# Altium schematic symbol library Schlib1.SchLib: 23 symbols
Pins are listed as number, name and electrical type; pins without a type are passive.

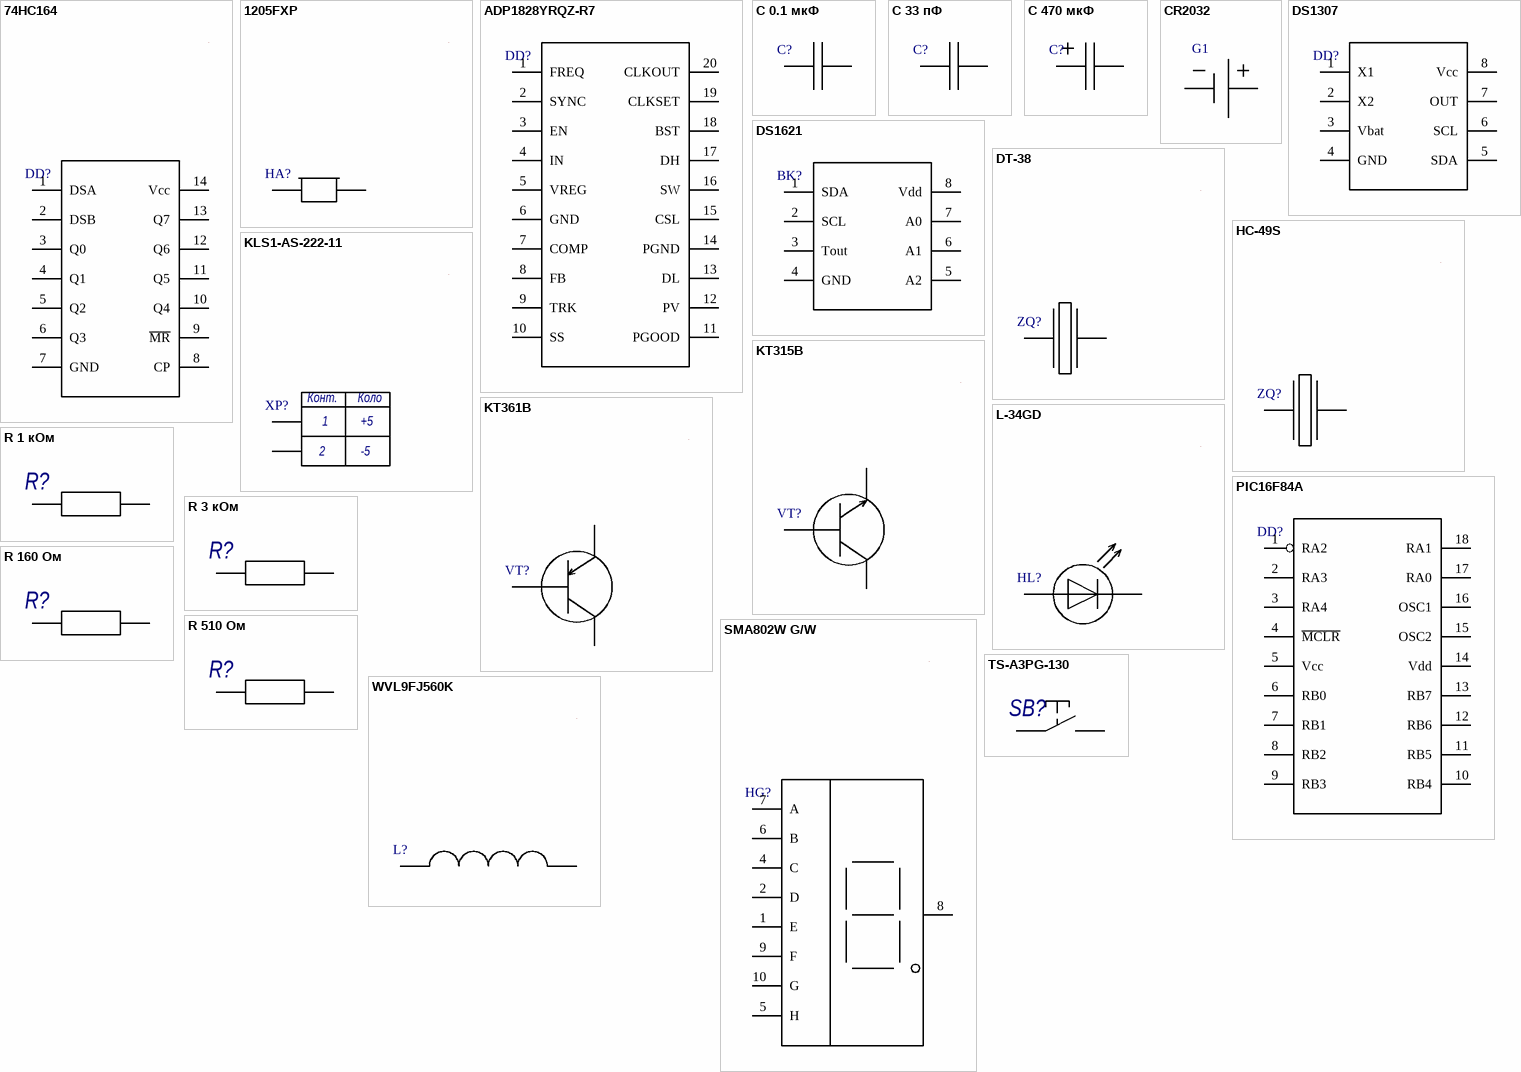
[diagram p0: symbols 74HC164 to WVL9FJ560K]

## 74HC164
designator DD?, comment 74HC164 Philips Semiconductors  (value not drawn)
https://www.digikey.com/en/products/detail/texas-instruments/CD74HC164M96/555785; Name: 74HC164; Manufacturer: Philips Semiconductors
footprint CD74HC164
pins: 1 DSA, 2 DSB, 3 Q0, 4 Q1, 5 Q2, 6 Q3, 7 GND, 8 CP, 9 ~{MR}, 10 Q4, 11 Q5, 12 Q6, 13 Q7, 14 Vcc

## 1205FXP
designator HA?, comment 1205FXP MULTICOMP  (value not drawn)
Name: 1205FXP; Manufacturer: MULTICOMP
footprint 1205FXP
pins: 1, 2

## ADP1828YRQZ-R7
designator DD?, comment ADP1828YRQZ-R7 Analog Devices  (value not drawn)
Микрушка; Name: ADP1828YRQZ-R7; Manufacturer: Analog Devices
pins: 1 FREQ, 2 SYNC, 3 EN, 4 IN, 5 VREG, 6 GND, 7 COMP, 8 FB, 9 TRK, 10 SS, 11 PGOOD, 12 PV, 13 DL, 14 PGND, 15 CSL, 16 SW, 17 DH, 18 BST, 19 CLKSET, 20 CLKOUT

## C 0.1 мкФ
designator C?, comment 0805 63 В 0.1 мкФ 10% *  (value not drawn)
https://product.tdk.com/en/system/files?file=dam/doc/product/capacitor/ceramic/mlcc/catalog/mlcc_automotive_soft_en.pdf; Voltage: 63 В; Value: 0.1 мкФ; Package: 0805; Tolerance: 10%; Temp_Coef: *; Manufacturer: *
footprint 0805_C
pins: 1, 2

## C 33 пФ
designator C?, comment С-0805 50 В 33 пФ 5% *  (value not drawn)
https://media.digikey.com/pdf/Data%20Sheets/Knowles%20Syfer/MLCC_High_Reliability.pdf; Voltage: 50 В; Value: 33 пФ; Package: С-0805; Tolerance: 5%; Temp_Coef: *; Manufacturer: *
footprint 0805_C
pins: 1, 2

## C 470 мкФ
designator C?, comment K50-35 16 В 470 мкФ 10% *  (value not drawn)
https://www.nichicon.co.jp/english/products/pdfs/e-ucm.pdf; Voltage: 16 В; Value: 470 мкФ; Package: K50-35; Tolerance: 10%; Temp_Coef: *; Manufacturer: *
footprint ELECTROLYTHIC
pins: 1, 2

## CR2032
designator G1, comment CR2032 MPD Devices  (value not drawn)
https://www.memoryprotectiondevices.com/datasheets/BU2032SM-FH-GTR-datasheet.pdf; Name: CR2032; Manufacturer: MPD Devices
footprint CR2032 (Footprint not found)
pins: 1, 2

## DS1307
designator DD?, comment DS1307 Dallas Semiconductor  (value not drawn)
https://www.digikey.com/en/products/detail/maxim-integrated/DS1307Z/956882; Name: DS1307; Manufacturer: Dallas Semiconductor
footprint DS1307
pins: 1 X1, 2 X2, 3 Vbat, 4 GND, 5 SDA, 6 SCL, 7 OUT, 8 Vcc

## DS1621
designator BK?, comment DS1621 Maxim integrated  (value not drawn)
https://www.digikey.com/en/products/detail/maxim-integrated/DS1621V/1197054; Name: DS1621; Manufacturer: Maxim integrated
footprint DS1621
pins: 1 SDA, 2 SCL, 3 Tout, 4 GND, 5 A2, 6 A1, 7 A0, 8 Vdd

## DT-38
designator ZQ?, comment DT-38 SPC TECHNOLOGY  (value not drawn)
https://www.digikey.com/en/products/detail/cts-frequency-controls/520L15DT38M4000/4973212; Name: DT-38; Manufacturer: SPC TECHNOLOGY
footprint DT-38
pins: 1, 2

## HC-49S
designator ZQ?, comment HC-49S SPC TECHNOLOGY  (value not drawn)
https://www.digikey.com/en/products/detail/w%C3%BCrth-elektronik/830003206B/13900488; Name: HC-49S; Manufacturer: SPC TECHNOLOGY
footprint HC-49S
pins: 1, 2

## KLS1-AS-222-11
designator XP?, comment KLS1-AS-222-11 KLS  (value not drawn)
https://www.rcscomponents.kiev.ua/product/razem-pitaniya-ac-iec-60320-c8-kls1-as-222-11_117885.html; Name: KLS1-AS-222-11; Manufacturer: KLS
footprint KLS1-AS-222-11
pins: 1, 2
text: Конт.; Коло; +5; -5

## KT315B
designator VT?, comment KT315B Zapad Pribor  (value not drawn)
https://eandc.ru/catalog/detail.php?ID=10270; Name: KT315B; Manufacturer: Zapad Pribor
footprint KT315B
pins: 1, 2, 3

## KT361B
designator VT?, comment KT361B Zapad Pribor  (value not drawn)
https://eandc.ru/catalog/detail.php?ID=10318; Name: KT361B; Manufacturer: Zapad Pribor
footprint KT361B
pins: 1, 2, 3

## L-34GD
designator HL?, comment 74HC164 Philips Semiconductors  (value not drawn)
https://www.tme.eu/ua/ru/details/l-34gd/svetodiody-tht-3mm/kingbright-electronic/?gclid=Cj0KCQjwppSEBhCGARIsANIs4p6Tk8y-EkAsvDV5NJn1Astt7FslfBwAzpVROw1eWOrpqwQt8y2AAxAaAr9iEALw_wcB&gclsrc=aw.ds; Name: 74HC164; Manufacturer: Philips Semiconductors
footprint L-34GD (Footprint not found)
pins: 1, 2

## PIC16F84A
designator DD?, comment PIC16F84A Microchip  (value not drawn)
https://www.digikey.com/en/products/detail/microchip-technology/PIC16F84A-04I-SS/303545; Name: PIC16F84A; Manufacturer: Microchip
footprint PIC16F84A
pins: 1 RA2, 2 RA3, 3 RA4, 4 ~{MCLR}, 5 Vcc, 6 RB0, 7 RB1, 8 RB2, 9 RB3, 10 RB4, 11 RB5, 12 RB6, 13 RB7, 14 Vdd, 15 OSC2, 16 OSC1, 17 RA0, 18 RA1

## R 1 кОм
designator R?, comment R-0805 0.1 Вт 1 кОм 10% Yageo  (value not drawn)
https://www.digikey.com/en/products/detail/koa-speer-electronics-inc/RK73G2ATTD1001D/13575930; Power: 0.1 Вт; Value: 1 кОм; Package: R-0805; Tolerance: 10%; Manufacturer: Yageo
footprint 0805_R
pins: 1, 2

## R 3 кОм
designator R?, comment R-0805 0.1 Вт 3 кОм 10% Yageo  (value not drawn)
https://www.digikey.com/en/products/detail/rohm-semiconductor/KTR10EZPJ302/1763402; Power: 0.1 Вт; Value: 3 кОм; Package: R-0805; Tolerance: 10%; Manufacturer: Yageo
footprint 0805_R
pins: 1, 2

## R 160 Ом
designator R?, comment R-0805 0.1 Вт 160 Ом 10% Yageo  (value not drawn)
https://www.digikey.com/en/products/detail/vishay-dale/CRCW0805160RJNEA/1175179; Power: 0.1 Вт; Value: 160 Ом; Package: R-0805; Tolerance: 10%; Manufacturer: Yageo
footprint 0805_R
pins: 1, 2

## R 510 Ом
designator R?, comment R-0805 0.1 Вт 510 Ом 10% Yageo  (value not drawn)
https://www.digikey.com/en/products/detail/stackpole-electronics-inc/RMCF0805JT510R/1757915; Power: 0.1 Вт; Value: 510 Ом; Package: R-0805; Tolerance: 10%; Manufacturer: Yageo
footprint 0805_R
pins: 1, 2

## SMA802W G/W
designator HG?, comment FYS-10012BUG Foryard optoelectronics  (value not drawn)
https://www.digikey.com/en/products/detail/american-opto-plus/SMA802W-G-W/13686837; Name: FYS-10012BUG; Manufacturer: Foryard optoelectronics
footprint SMA802W G/W
pins: 1 E, 2 D, 4 C, 5 H, 6 B, 7 A, 8, 9 F, 10 G

## TS-A3PG-130
designator SB?, comment TS-A3PG-130 SWITRONIC INDUSTRIAL  (value not drawn)
https://www.chipdip.ru/product0/8975490899; Name: TS-A3PG-130; Manufacturer: SWITRONIC INDUSTRIAL
footprint TS-A3PG-130
pins: 1, 2

## WVL9FJ560K
designator L?, comment WVL9FJ560K Vishay Dale  (value not drawn)
https://www.digikey.com/en/products/detail/vishay-dale/WVL9FJ560K/8283799?s=N4IgTCBcDaIOoDUAyBOAYgKQKwDYAMA0iALoC%2BQA; Name: WVL9FJ560K; Manufacturer: Vishay Dale
footprint WVL9FJ560K
pins: 1, 2